# EAGLE library part ESP8266_NODEMCU (library Nextion handheld controller)
ESP8266_NodeMCU
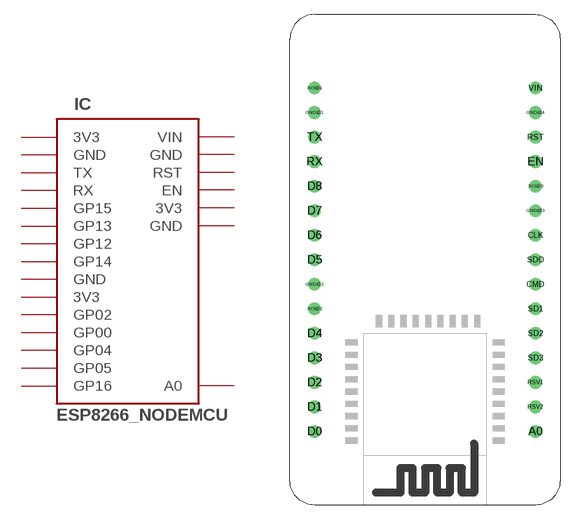
[diagram p19: symbol with the pads of NODEMCU_ESP8266; footprint NODEMCU_ESP8266]

Designator prefix IC

## ESP8266_NODEMCU  [NODEMCU_ESP8266]
3V3@1  3V3  pwr
3V3@2  3V3  pwr
3V3@3  3V3  pwr
A0  A0
D0  GP16
D1  GP05
D2  GP04
D3  GP00
D4  GP02
D5  GP14
D6  GP12
D7  GP13
D8  GP15
EN  EN
GND@1  GND  pwr
GND@2  GND  pwr
GND@3  GND  pwr
GND@4  GND  pwr
RST  RST
RX  RX
TX  TX
VIN  VIN  pwr

## Footprint NODEMCU_ESP8266 (pad centres in mm)
drill 0.8: 3V3@1 -11.43,19.05; 3V3@2 -11.43,-3.81; 3V3@3 11.43,8.89; A0 11.43,-16.51; CLK 11.43,3.81; CMD 11.43,-1.27; D0 -11.43,-16.51; D1 -11.43,-13.97; D2 -11.43,-11.43; D3 -11.43,-8.89; D4 -11.43,-6.35; D5 -11.43,1.27; D6 -11.43,3.81; D7 -11.43,6.35; D8 -11.43,8.89; EN 11.43,11.43; GND@1 -11.43,16.51; GND@2 -11.43,-1.27; GND@3 11.43,6.35; GND@4 11.43,16.51; RST 11.43,13.97; RSV1 11.43,-11.43; RSV2 11.43,-13.97; RX -11.43,11.43; SD1 11.43,-3.81; SD2 11.43,-6.35; SD3 11.43,-8.89; SDO 11.43,1.27; TX -11.43,13.97; VIN 11.43,19.05